# EAGLE library part OPA551 (library TomW)
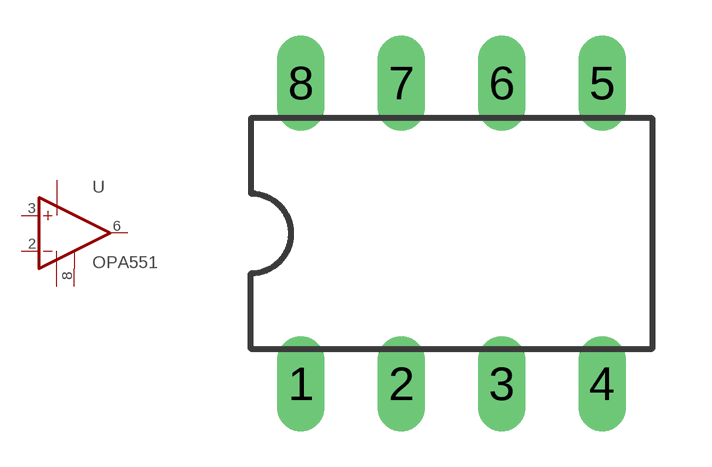
[diagram p7: symbol with the pads of DIL08; footprint DIL08]

Designator prefix -

## OPA551  [DIL08]
2  -IN  in
3  +IN  in
4  -12V  pwr
6  OUT  out
7  +12V  pwr
8  OPT  pas

## Footprint DIL08 (pad centres in mm)
Dual In Line Package
drill 0.7 long: 1 -3.81,-3.81; 2 -1.27,-3.81; 3 1.27,-3.81; 4 3.81,-3.81; 5 3.81,3.81; 6 1.27,3.81; 7 -1.27,3.81; 8 -3.81,3.81